# Altium footprint library self_component.PcbLib: 21 footprints (part 2 of 2)
Each footprint in its own frame and in the unit in brackets; x right, y up, seen from the top. Pads: shape width x height; smd on the part's side, far side on the other; paste and mask are expansions set on the pad; w line width, h text height; cw(c..) or ccw(c..) is an arc to the next point about the centre after c.
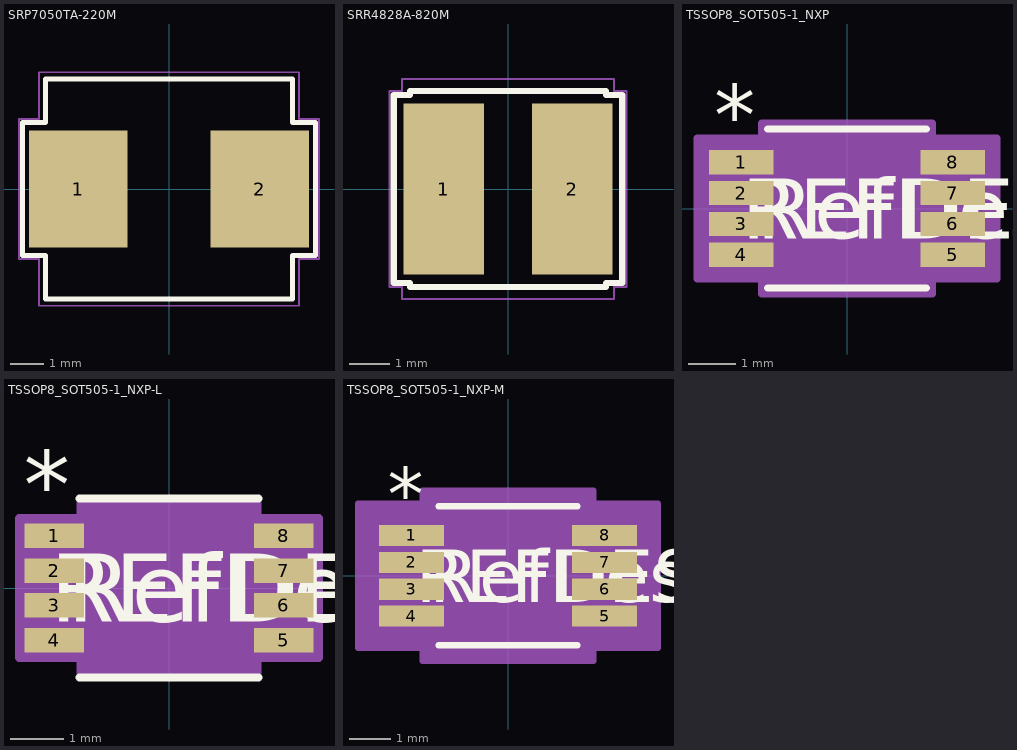
[diagram p1: the footprints below, top view; thin cyan lines are the x and y axes]

## SRP7050TA-220M [mm]
pads (2):
  rect 2.95x3.5 smd: 1(-2.725,0) 2(2.725,0)
Top Overlay:
  lines w0.15: -4.4,-2 -3.7,-2 -3.7,-3.3 3.7,-3.3 3.7,-2 4.4,-2 4.4,2 3.7,2 3.7,3.3 -3.7,3.3 -3.7,2 -4.4,2 -4.4,-2
Top Courtyard:
  lines w0.05: -4.5,-2.1 -4.5,1.8 -4.5,2.1 -3.9,2.1 -3.9,3.5 3.9,3.5 3.9,2.1 4.5,2.1 4.5,-2.1 3.9,-2.1 3.9,-3.5 -3.9,-3.5 -3.9,-2.1 -4.5,-2.1
3D body "SRP7050TA.stp": height 4.6, standoff -0.35, extent -3.65,-3.3 3.65,3.3

## SRR4828A-820M [mm] "L-SMD-M-4.8x4.8x2.8mm"
pads (2):
  rect 1.98x4.2 smd: 1(-1.575,0) 2(1.575,0)
Top Overlay:
  lines w0.15: -2.8,-2.3 -2.4,-2.3 -2.4,-2.4 2.4,-2.4 2.4,-2.3 2.5,-2.3 2.8,-2.3 2.8,2.3 2.7,2.3 2.6,2.3 2.4,2.3 2.4,2.4 -2.3,2.4 -2.4,2.4 -2.4,2.3 -2.8,2.3 -2.8,-2.3
Top Courtyard:
  lines w0.05: -2.9,2.1 -2.9,2.4 -2.6,2.4 -2.6,2.7 2.6,2.7 2.6,2.4 2.9,2.4 2.9,-2.4 2.6,-2.4 2.6,-2.7 -2.6,-2.7 -2.6,-2.6 -2.6,-2.4 -2.9,-2.4 -2.9,2.2
3D body "SRR4828A (1).stp": height 2.8, standoff 0.04, extent -2.4,-2.41 2.4,2.41

## TSSOP8_SOT505-1_NXP [mil]
pads (8):
  rect 53.5x20 smd paste+0 mask+0: 1(-87.75,38.39) 2(-87.75,12.8) 3(-87.75,-12.8) 4(-87.75,-38.39) 5(87.75,-38.39) 6(87.75,-12.8) 7(87.75,12.8) 8(87.75,38.39)
Top Overlay:
  lines w6: -66,-66 66,-66 ; -66,66 66,66
  text "RefDes" at -75,-25 h50
  text "*" at -110.25,53.39 h50
  text "REFDES" at -87.5,-25 h50
Mechanical 13:
  lines w0: -12,61 ccw(c0,61) 12,61
  lines w1: -100.5,-47.39 -61,-47.39 -61,-29.39 -100.5,-29.39 -100.5,-47.39 ; -100.5,-21.8 -61,-21.8 -61,-3.8 -100.5,-3.8 -100.5,-21.8 ; -100.5,3.8 -61,3.8 -61,21.8 -100.5,21.8 -100.5,3.8 ; -100.5,29.39 -61,29.39 -61,47.39 -100.5,47.39 -100.5,29.39 ; -61,-61 -61,61 61,61 61,-61 -61,-61 ; 61,-47.39 100.5,-47.39 100.5,-29.39 61,-29.39 61,-47.39 ; 61,-21.8 100.5,-21.8 100.5,-3.8 61,-3.8 61,-21.8 ; 61,3.8 100.5,3.8 100.5,21.8 61,21.8 61,3.8 ; 61,29.39 100.5,29.39 100.5,47.39 61,47.39 61,29.39
  text "RefDes2" at -87.5,-25 h50
  text "*" at -58.5,8 h50
Mechanical 15:
  region: -71,-58.39 -124.5,-58.39 -124.5,58.39 -71,58.39 -71,71 71,71 71,58.39 124.5,58.39 124.5,-58.39 71,-58.39 71,-71 -71,-71
  lines w6: -124.5,-58.39 -71,-58.39 -71,-71 71,-71 71,-58.39 124.5,-58.39 124.5,58.39 71,58.39 71,71 -71,71 -71,58.39 -124.5,58.39 -124.5,-58.39
3D body "TSSOP8_SOT505-1_NXP.step": height 43.11, standoff 0, extent -100.51,-60.98 100.51,60.98

## TSSOP8_SOT505-1_NXP-L [mil]
pads (8):
  rect 44x18 smd paste+0 mask+0: 1(-84.5,38.39) 2(-84.5,12.8) 3(-84.5,-12.8) 4(-84.5,-38.39) 5(84.5,-38.39) 6(84.5,-12.8) 7(84.5,12.8) 8(84.5,38.39)
Top Overlay:
  lines w6: -66,-66 66,-66 ; -66,66 66,66
  text "REFDES" at -87.5,-25 h50
  text "*" at -107,51.39 h50
  text "RefDes" at -75,-25 h50
Mechanical 13:
  lines w0: -12,61 ccw(c0,61) 12,61
  lines w1: -100.5,-47.39 -100.5,-29.39 -61,-29.39 -61,-47.39 -100.5,-47.39 ; -100.5,-21.8 -100.5,-3.8 -61,-3.8 -61,-21.8 -100.5,-21.8 ; -100.5,3.8 -100.5,21.8 -61,21.8 -61,3.8 -100.5,3.8 ; -100.5,29.39 -100.5,47.39 -61,47.39 -61,29.39 -100.5,29.39 ; -61,-61 61,-61 61,61 -61,61 -61,-61 ; 61,-47.39 61,-29.39 100.5,-29.39 100.5,-47.39 61,-47.39 ; 61,-21.8 61,-3.8 100.5,-3.8 100.5,-21.8 61,-21.8 ; 61,3.8 61,21.8 100.5,21.8 100.5,3.8 61,3.8 ; 61,29.39 61,47.39 100.5,47.39 100.5,29.39 61,29.39
  text "*" at -58.5,8 h50
  text "RefDes2" at -87.5,-25 h50
Mechanical 15:
  region: -65,-51.39 -110.5,-51.39 -110.5,51.39 -65,51.39 -65,65 65,65 65,51.39 110.5,51.39 110.5,-51.39 65,-51.39 65,-65 -65,-65
  lines w6: -110.5,-51.39 -110.5,51.39 -65,51.39 -65,65 65,65 65,51.39 110.5,51.39 110.5,-51.39 65,-51.39 65,-65 -65,-65 -65,-51.39 -110.5,-51.39
3D body "TSSOP8_SOT505-1_NXP.step": height 43.11, standoff 0, extent -100.51,-60.98 100.51,60.98

## TSSOP8_SOT505-1_NXP-M [mil]
pads (8):
  rect 61.5x20 smd paste+0 mask+0: 1(-91.75,38.39) 2(-91.75,12.8) 3(-91.75,-12.8) 4(-91.75,-38.39) 5(91.75,-38.39) 6(91.75,-12.8) 7(91.75,12.8) 8(91.75,38.39)
Top Overlay:
  lines w6: -66,-66 66,-66 ; -66,66 66,66
  text "REFDES" at -87.5,-25 h50
  text "*" at -114.25,53.39 h50
  text "RefDes" at -75,-25 h50
Mechanical 13:
  lines w0: -12,61 ccw(c0,61) 12,61
  lines w1: -100.5,-47.39 -100.5,-29.39 -61,-29.39 -61,-47.39 -100.5,-47.39 ; -100.5,-21.8 -100.5,-3.8 -61,-3.8 -61,-21.8 -100.5,-21.8 ; -100.5,3.8 -100.5,21.8 -61,21.8 -61,3.8 -100.5,3.8 ; -100.5,29.39 -100.5,47.39 -61,47.39 -61,29.39 -100.5,29.39 ; -61,-61 61,-61 61,61 -61,61 -61,-61 ; 61,-47.39 61,-29.39 100.5,-29.39 100.5,-47.39 61,-47.39 ; 61,-21.8 61,-3.8 100.5,-3.8 100.5,-21.8 61,-21.8 ; 61,3.8 61,21.8 100.5,21.8 100.5,3.8 61,3.8 ; 61,29.39 61,47.39 100.5,47.39 100.5,29.39 61,29.39
  text "*" at -58.5,8 h50
  text "RefDes2" at -87.5,-25 h50
Mechanical 15:
  region: -81,-68.39 -142.5,-68.39 -142.5,68.39 -81,68.39 -81,81 81,81 81,68.39 142.5,68.39 142.5,-68.39 81,-68.39 81,-81 -81,-81
  lines w6: -142.5,-68.39 -142.5,68.39 -81,68.39 -81,81 81,81 81,68.39 142.5,68.39 142.5,-68.39 81,-68.39 81,-81 -81,-81 -81,-68.39 -142.5,-68.39
3D body "TSSOP8_SOT505-1_NXP.step": height 43.11, standoff 0, extent -100.51,-60.98 100.51,60.98